# Altium schematic symbol library Component Library.SchLib: 2 symbols
Pins are listed as number, name and electrical type; pins without a type are passive.

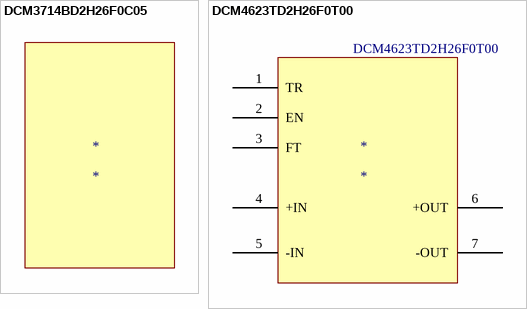
[diagram p0: symbols DCM3714BD2H26F0C05 to DCM4623TD2H26F0T00]

## DCM3714BD2H26F0C05
designator *

## DCM4623TD2H26F0T00
designator *
pins: 1 TR, 2 EN, 3 FT, 4 +IN, 5 -IN, 6 +OUT, 7 -OUT